# EAGLE library part HEADER_1X8 (library 1)
Header 8P
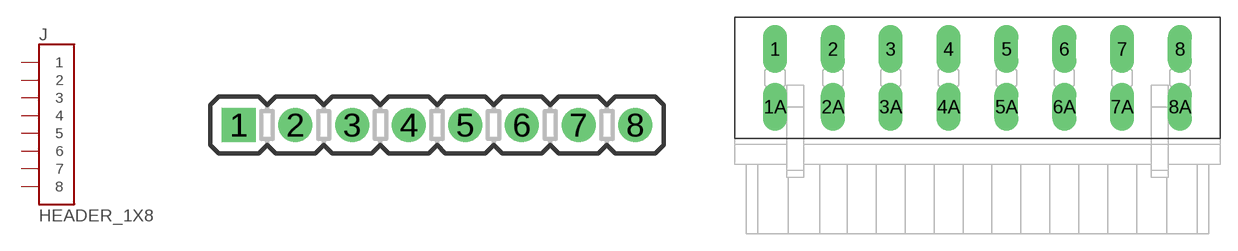
[diagram p38: symbol with the pads of 1X8_TH; footprints 1X8_TH, IC8]

Designator prefix J

## HEADER_1X8  [1X8_TH]
1  1
2  2
3  3
4  4
5  5
6  6
7  7
8  8

## HEADER_1X8PLUG  [IC8]
1  1
1A  1
2  2
2A  2
3  3
3A  3
4  4
4A  4
5  5
5A  5
6  6
6A  6
7  7
7A  7
8  8
8A  8

## HEADER_1X8PLUGSMALL  [IC8_SMALL]
Pads as for IC8

## HEADER_1X8RJ45  [RJ45]
Pads as for 1X8_TH

## Footprint 1X8_TH (pad centres in mm)
Header 8P, 0.1"
drill 0.914 pad 1.524 square: 1 -8.89,0
drill 0.914 pad 1.524: 2 -6.35,0; 3 -3.81,0; 4 -1.27,0; 5 1.27,0; 6 3.81,0; 7 6.35,0; 8 8.89,0

## Footprint IC8 (pad centres in mm)
PHOENIX
drill 1.397 long: 1 -17.78,2.54; 1A -17.78,-2.54; 2 -12.7,2.54; 2A -12.7,-2.54; 3 -7.62,2.54; 3A -7.62,-2.54; 4 -2.54,2.54; 4A -2.54,-2.54; 5 2.54,2.54; 5A 2.54,-2.54; 6 7.62,2.54; 6A 7.62,-2.54; 7 12.7,2.54; 7A 12.7,-2.54; 8 17.78,2.54; 8A 17.78,-2.54

## Footprint IC8_SMALL (pad centres in mm)
drill 1.397 pad 2.54: 1 -17.78,2.54; 1A -17.78,-2.54; 2 -12.7,2.54; 2A -12.7,-2.54; 3 -7.62,2.54; 3A -7.62,-2.54; 4 -2.54,2.54; 4A -2.54,-2.54; 5 2.54,2.54; 5A 2.54,-2.54; 6 7.62,2.54; 6A 7.62,-2.54; 7 12.7,2.54; 7A 12.7,-2.54; 8 17.78,2.54; 8A 17.78,-2.54

## Footprint RJ45 (pad centres in mm)
TE 5555167-1 <http://www.te.com/commerce/DocumentDelivery/DDEController?Action=srchrtrv&DocNm=5555167&DocType=Customer+Drawing&DocLang=English>
drill 0.89 square: 1 -4.445,6.35
drill 0.89: 2 -3.175,8.89; 3 -1.905,6.35; 4 -0.635,8.89; 5 0.635,6.35; 6 1.905,8.89; 7 3.175,6.35; 8 4.445,8.89
hole 3.25 at -5.72,0
hole 3.25 at 5.72,0